# Altium schematic symbol library aiskylab-07IC-07Logic.SchLib: 2 symbols
Pins are listed as number, name and electrical type; pins without a type are passive.

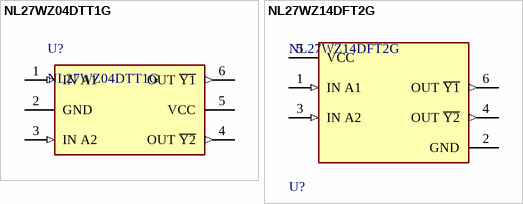
[diagram p0: symbols NL27WZ04DTT1G to NL27WZ14DFT2G]

## NL27WZ04DTT1G
designator U?
双输入 反相器
footprint FP-419B-02-IPC_A
footprint FP-419B-02-IPC_B
footprint FP-419B-02-IPC_C
footprint FP-419B-02-MFG
pins: 1 IN A1 (in), 2 GND (power), 3 IN A2 (in), 4 OUT ~{Y2} (out), 5 VCC (power), 6 OUT ~{Y1} (out)

## NL27WZ14DFT2G
designator U?
双输入 反相器; Manufacturer: ON Semiconductor; Max Junction Temp: +150°C; Quiescent Current: 1uA; Propagation Delay: 7.1ns; Max Supply Voltage: 5.5V; Number Of Inputs: 1; Standoff Height: 0mm; Logic Function Desc: Inverting; Nominal Supply Current: 100mA; Min Supply Voltage: 1.65V; Number Of Circuits: 2; ComponentLink2Description: Datasheet; Digikey Description: IC INVERTER SCHMITT 2CH SC88; Device Class L2: Logic ICs; Temperature Range Low: -55°C; Octopart: https://octopart.com/nl27wz14dft2g-on+semiconductor-467670; Ambient Temperature Range Low: -55°C; Temperature: -55°C to +125°C; Device Class L1: Integrated Circuits (ICs); Lead Free: Yes; Ipc Land Pattern Name: SOT65P210X110-6; Mouser Description: Inverters 1.65-5.5V CMOS Dual Schmitt; RoHS: TRUE; Manufacturer Part Number: NL27WZ14DFT2G; Ambient Temperature Range High: +125°C; Package: 419B-02; Category: IC; ComponentLink2URL: https://www.onsemi.com/pub/Collateral/NL27WZ14-D.PDF; Height: 1.1mm; Temperature Range High: +125°C; Automotive: No; Footprint Url: https://www.onsemi.com/pub/Collateral/419B-02.PDF; Number Of Outputs: 1; Device Class L3: Logic Gates
footprint FP-419B-02-IPC_C
footprint FP-419B-02-IPC_A
footprint FP-419B-02-MFG
footprint FP-419B-02-IPC_B
pins: 1 IN A1 (in), 2 GND (power), 3 IN A2 (in), 4 OUT ~{Y2} (out), 5 VCC (power), 6 OUT ~{Y1} (out)